# Altium schematic symbol library TACTACT SWITCH.SchLib: 3 symbols
Pins are listed as number, name and electrical type; pins without a type are passive.

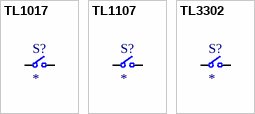
[diagram p0: symbols TL1017 to TL3302]

## TL1017
designator S?
TL1017 Series Miniature SMT Tactile Switch, 3.0 x 2.5 (mm). 50mA @ 12VDC; Manufacturer: E-SWITCH; Voltage: 12VC; Current Ratting: 50mA; Manufacturer Part: *; ComponentLink1Description: Datasheet; ComponentLink1URL: https://www.e-switch.com/wp-content/uploads/2023/03/TL1017.pdf
footprint TL1017
pins: 1, 2

## TL1107
designator S?
TL1107 Series Through Hole Tactile Switch. 6 x 3.5mm. 50mA @ 12VDC; Manufacturer: E-SWITCH; Current Ratting: 50mA; Voltage: 12VDC; Manufacturer Part: *; ComponentLink1Description: Datasheet; ComponentLink1URL: https://www.e-switch.com/wp-content/uploads/2022/06/TL1107.pdf
footprint TL1107
pins: 1, 2

## TL3302
designator S?
TL3302 Series SMT Tactile Switch; Manufacturer: E-SWITCH; Current Ratting: 50mA; Voltage: 12VDC; Manufacturer Part: *; ComponentLink1Description: Datasheet; ComponentLink1URL: https://www.e-switch.com/wp-content/uploads/2022/06/TL3302.pdf
footprint TL3302
pins: 1, 2